# EAGLE library part GPS (library UORocketry)
Adafruit ultimate GPS breakout
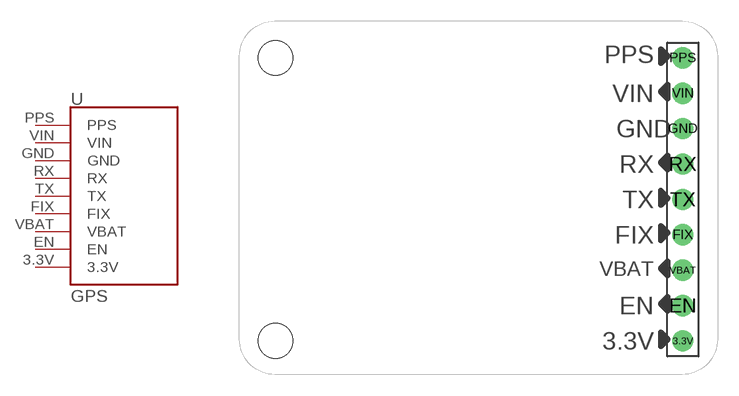
[diagram p4: symbol with the pads of GPS; footprint GPS]

Designator prefix -

## GPS  [GPS]
3.3V  3.3V
EN  EN
FIX  FIX
GND  GND
PPS  PPS
RX  RX
TX  TX
VBAT  VBAT
VIN  VIN

## Footprint GPS (pad centres in mm)
drill 1.016: 3.3V 14.7,-10.89; EN 14.7,-8.35; FIX 14.7,-3.27; GND 14.7,4.35; PPS 14.7,9.43; RX 14.7,1.81; TX 14.7,-0.73; VBAT 14.7,-5.81; VIN 14.7,6.89
hole 2.5 at -14.51,9.43
hole 2.5 at -14.51,-10.89